# Altium schematic symbol library LineSensorComponents.SchLib: 3 symbols
Pins are listed as number, name and electrical type; pins without a type are passive.

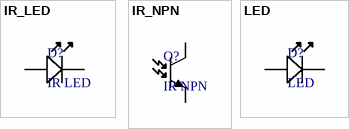
[diagram p0: symbols IR_LED to LED]

## IR_LED
designator D?, comment IR LED
footprint STDLED
pins: A, K

## IR_NPN
designator Q?, comment IR NPN
footprint IRNPN
pins: 1 E, 3 C

## LED
designator D?
footprint STDLED
pins: A, K